# Altium schematic symbol library SR215C104KAR.SchLib: 2 symbols
Pins are listed as number, name and electrical type; pins without a type are passive.

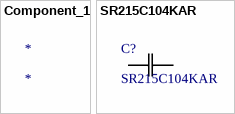
[diagram p0: symbols Component_1 to SR215C104KAR]

## Component_1
designator *

## SR215C104KAR
designator C?
No Description Available; Manufacturer_Name: KYOCERA AVX; Copyright: Copyright (C) 2026 Ultra Librarian. All rights reserved.; Manufacturer_Part_Number: SR215C104KAR
footprint CAP_SR21_AVX
pins: 1, 2